# EAGLE library part LMD18200T (library 0SBLib)
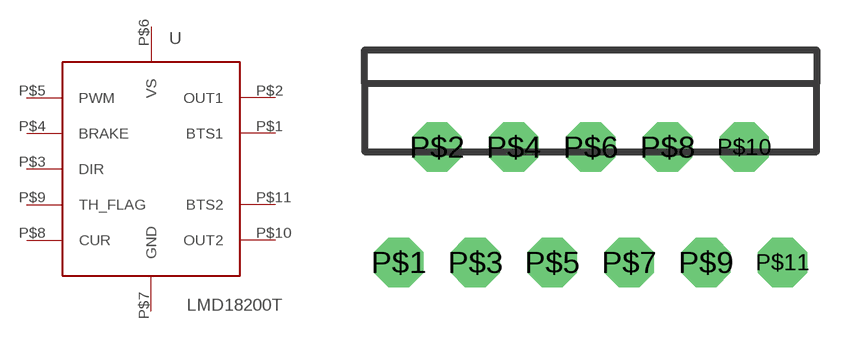
[diagram p23: symbol with the pads of TO-220_11; footprint TO-220_11]

Designator prefix -

## LMD18200T  [TO-220_11]
P$1  BTS1  out
P$2  OUT1  out
P$3  DIR  in
P$4  BRAKE  in
P$5  PWM  in
P$6  VS  pwr
P$7  GND  pwr
P$8  CUR  out
P$9  TH_FLAG  out
P$10  OUT2  out
P$11  BTS2  out

## Footprint TO-220_11 (pad centres in mm)
drill 1.2 pad 2.184 octagon: P$1 0,0; P$2 1.7,5.1; P$3 3.4,0; P$4 5.1,5.1; P$5 6.8,0; P$6 8.5,5.1; P$7 10.2,0; P$8 11.9,5.1; P$9 13.6,0; P$10 15.3,5.1; P$11 17,0